# Altium footprint library JST BM04B-GHS-TBT.PCBLIB: 1 footprints
Each footprint in its own frame and in the unit in brackets; x right, y up, seen from the top. Pads: shape width x height; smd on the part's side, far side on the other; paste and mask are expansions set on the pad; w line width, h text height; cw(c..) or ccw(c..) is an arc to the next point about the centre after c.
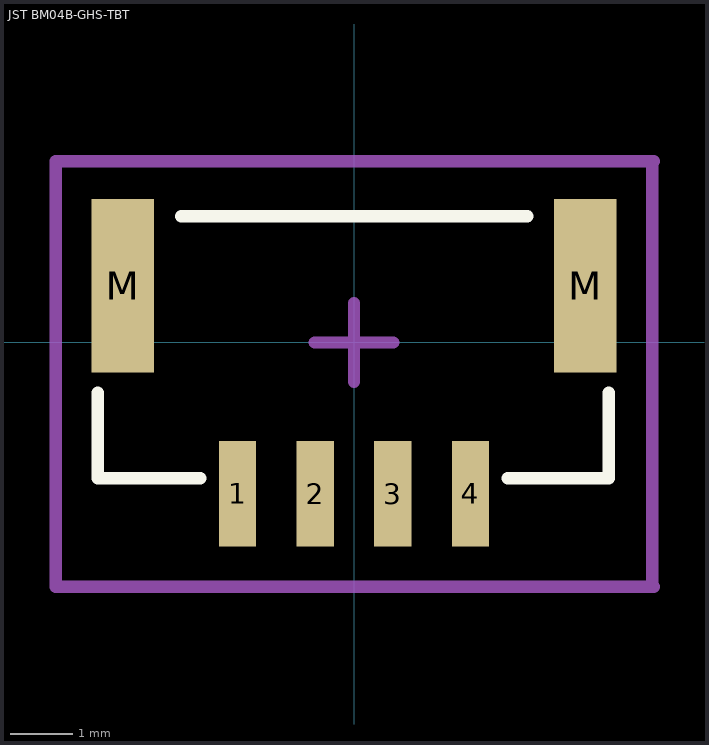
[diagram p0: the footprint, top view; thin cyan lines are the x and y axes]

## JST BM04B-GHS-TBT [mm] "JST GH Series 1.25mm pitch, top entry connector"
height 4.5
pads (6):
  rect 0.6x1.7 smd: 1(-1.875,-2.437) 2(-0.625,-2.437) 3(0.625,-2.437) 4(1.875,-2.437)
  rect 1x2.8 smd: M(-3.725,0.913) M(3.725,0.913)
Top Overlay:
  lines w0.2: -4.125,-0.812 -4.125,-2.187 -2.475,-2.187 ; -2.784,2.032 2.794,2.032 ; 2.475,-2.187 4.1,-2.187 4.1,-0.812
Mechanical 15:
  lines w0.2: -0.635,0 0.635,0 ; 0,-0.635 0,0.635 ; 4.806,-3.937 4.806,2.921 ; 4.826,-3.937 -4.806,-3.937 -4.806,2.921 4.826,2.921
3D body "JST BM04B-GHS-TBT.STEP": height 4.18, standoff -0.03, extent -4.125,-2.918 4.125,2.032